# EAGLE library part LM2596 (library psu)
TI Buck converter
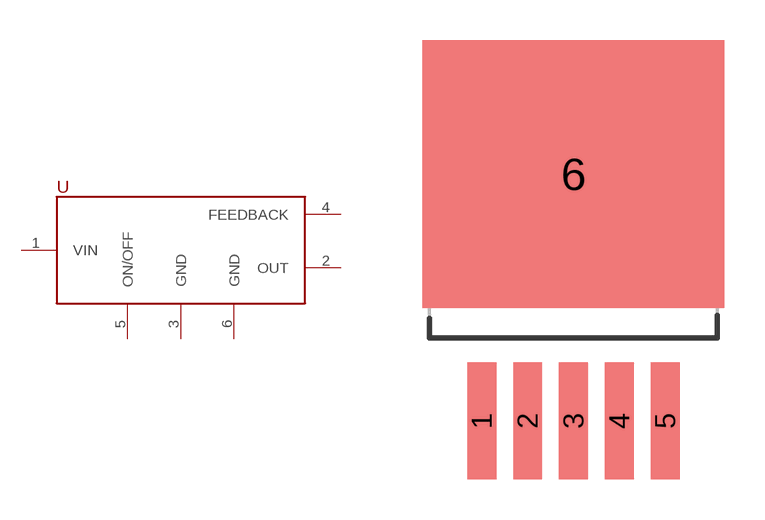
[diagram p0: symbol with the pads of TO-263; footprint TO-263]

Designator prefix U

## LM2596  [TO-263]
1  VIN  pwr
2  OUT  out
3  GND  pwr
4  FEEDBACK  out
5  ON/OFF  in
6  GND  pwr

## Footprint TO-263 (pad centres in mm)
TO-263
smd 1.07 x 4.32: 1 2.2,-14.1; 2 3.9,-14.1; 3 5.6,-14.1; 4 7.3,-14.1; 5 9,-14.1
smd 11.18 x 9.91: 6 5.6,-4.955